# EAGLE library part 20PEDGE (library apricot)
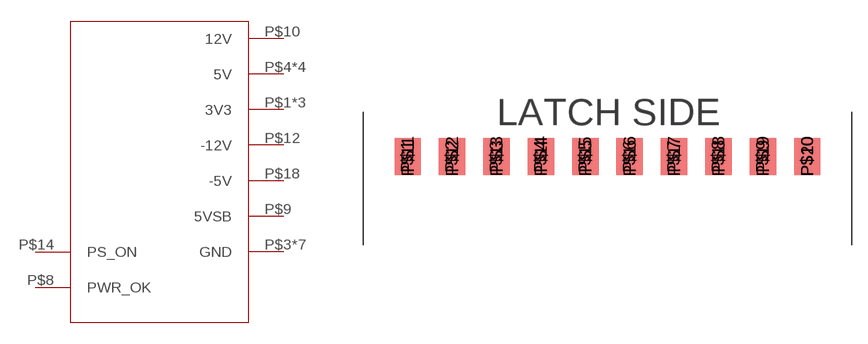
[diagram p0: symbol with the pads of 20P_EDGE; footprint 20P_EDGE]

Designator prefix -

## 20PEDGE  [20P_EDGE]
P$1  3V3
P$2  3V3
P$3  GND
P$4  5V
P$5  GND
P$6  5V
P$7  GND
P$8  PWR_OK
P$9  5VSB
P$10  12V
P$11  3V3
P$12  -12V
P$13  GND
P$14  PS_ON
P$15  GND
P$16  GND
P$17  GND
P$18  -5V
P$19  5V
P$20  5V

## Footprint 20P_EDGE (pad centres in mm)
smd 2.5 x 3.5 bottom: P$1 -18.9,0; P$2 -14.7,0; P$3 -10.5,0; P$4 -6.3,0; P$5 -2.1,0; P$6 2.1,0; P$7 6.3,0; P$8 10.5,0; P$9 14.7,0; P$10 18.9,0
smd 2.5 x 3.5: P$11 -18.9,0; P$12 -14.7,0; P$13 -10.5,0; P$14 -6.3,0; P$15 -2.1,0; P$16 2.1,0; P$17 6.3,0; P$18 10.5,0; P$19 14.7,0; P$20 18.9,0